# Altium footprint library BELFUSE_0659C1000-12.PcbLib: 1 footprints
Each footprint in its own frame and in the unit in brackets; x right, y up, seen from the top. Pads: shape width x height; smd on the part's side, far side on the other; paste and mask are expansions set on the pad; w line width, h text height; cw(c..) or ccw(c..) is an arc to the next point about the centre after c.
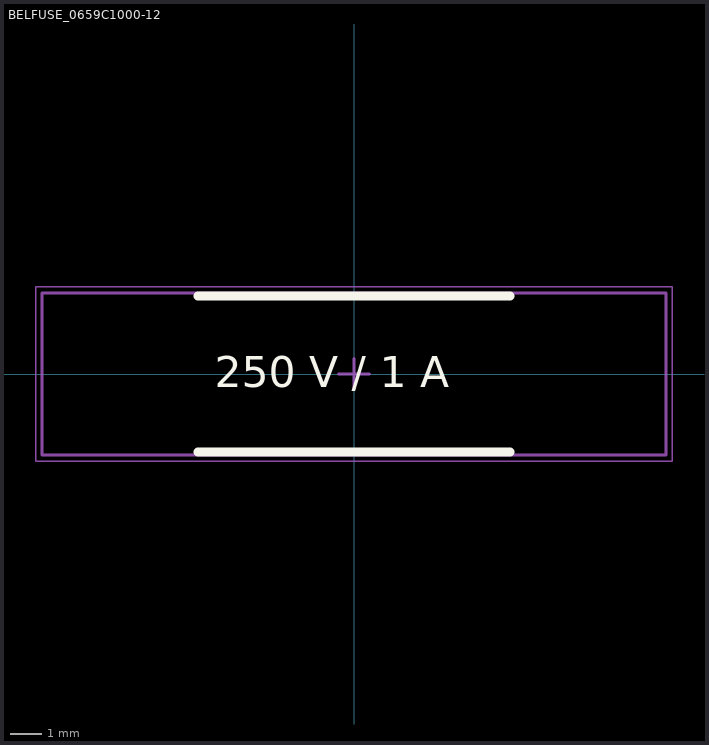
[diagram p0: the footprint, top view; thin cyan lines are the x and y axes]

## BELFUSE_0659C1000-12 [mm] "BELFUSE_0659C1000-12"
height 5.2
Top Overlay:
  lines w0.3: -5,-2.5 5,-2.5 ; -5,2.5 5,2.5
  text "250 V / 1 A" at -4.466,-0.428 h1
Mechanical 13:
  lines w0.1: -10,-2.6 -10,2.6 10,2.6 10,-2.6 -10,-2.6
Mechanical 15 (Mech15):
  lines w0.05: -10.2,-2.8 10.2,-2.8 10.2,2.8 -10.2,2.8 -10.2,-2.8
  lines w0.1: -0.5,0 0.5,0 ; 0,-0.5 0,0.5
3D body "BELFUSE_0659C1000-12.STEP": height 8.95, standoff 3.75, extent -10,-2.589 10,2.589